# EAGLE library part PCF8574 (library ds_ic_peripherals)
8-bit 2.5- to 5.5-V I2C/SMBus I/O expander with interrupt
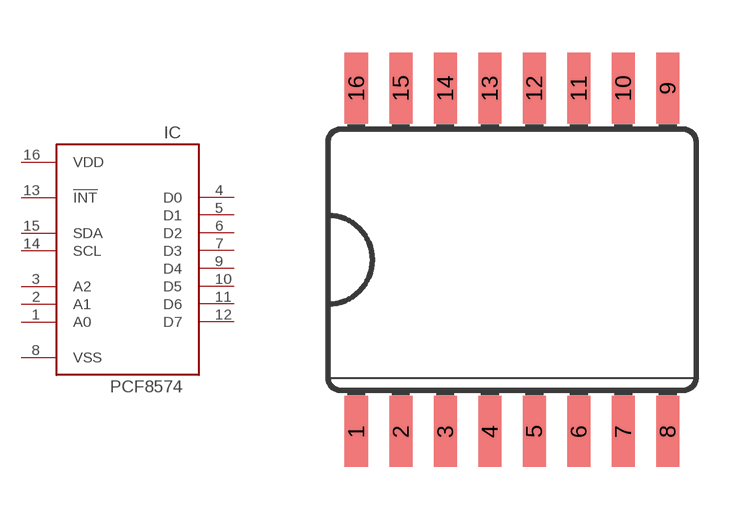
[diagram p80: symbol with the pads of SO16L; footprint SO16L]

Designator prefix IC

## PCF8574  [SO16L]
1  A0
2  A1
3  A2
4  D0
5  D1
6  D2
7  D3
8  VSS
9  D4
10  D5
11  D6
12  D7
13  !INT
14  SCL
15  SDA
16  VDD

## Footprint SO16L (pad centres in mm)
Small Outline Package .300 SIOC Source: http://www.maxim-ic.com/cgi-bin/packages?pkg=16%2FSOIC%2E300&Type=Max
smd 0.66 x 2.032: 1 -4.445,-4.902; 2 -3.175,-4.902; 3 -1.905,-4.902; 4 -0.635,-4.902; 5 0.635,-4.902; 6 1.905,-4.902; 7 3.175,-4.902; 8 4.445,-4.902; 9 4.445,4.902; 10 3.175,4.902; 11 1.905,4.902; 12 0.635,4.902; 13 -0.635,4.902; 14 -1.905,4.902; 15 -3.175,4.902; 16 -4.445,4.902